# EAGLE library part LCC110 (library amplifier)
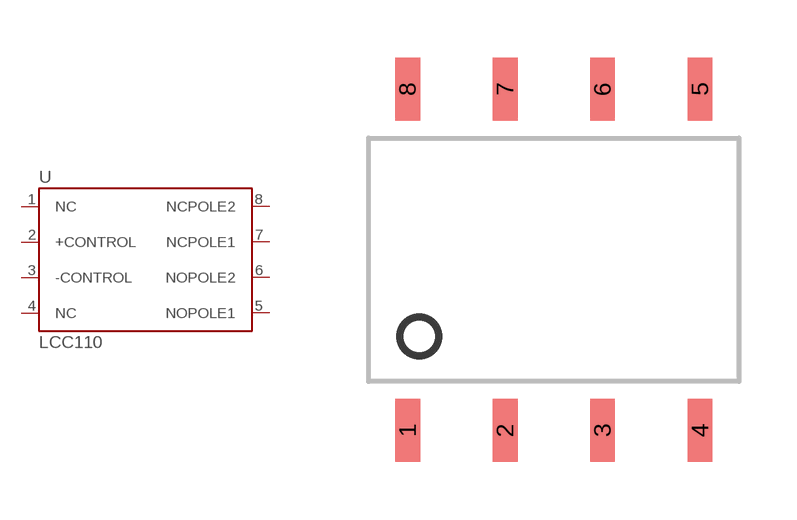
[diagram p1: symbol with the pads of 8-SMD; footprint 8-SMD]

Designator prefix U

## LCC110  [8-SMD]
1  NC  nc
2  +CONTROL  in
3  -CONTROL  in
4  NC  nc
5  NOPOLE1  pas
6  NOPOLE2  pas
7  NCPOLE1  pas
8  NCPOLE2  pas

## Footprint 8-SMD (pad centres in mm)
smd 0.65 x 1.65: 1 -3.81,-4.45; 2 -1.27,-4.45; 3 1.27,-4.45; 4 3.81,-4.45; 5 3.81,4.45; 6 1.27,4.45; 7 -1.27,4.45; 8 -3.81,4.45